# Altium footprint library SuperKnobLite.PcbLib: 29 footprints (part 2 of 2)
Each footprint in its own frame and in the unit in brackets; x right, y up, seen from the top. Pads: shape width x height; smd on the part's side, far side on the other; paste and mask are expansions set on the pad; w line width, h text height; cw(c..) or ccw(c..) is an arc to the next point about the centre after c.
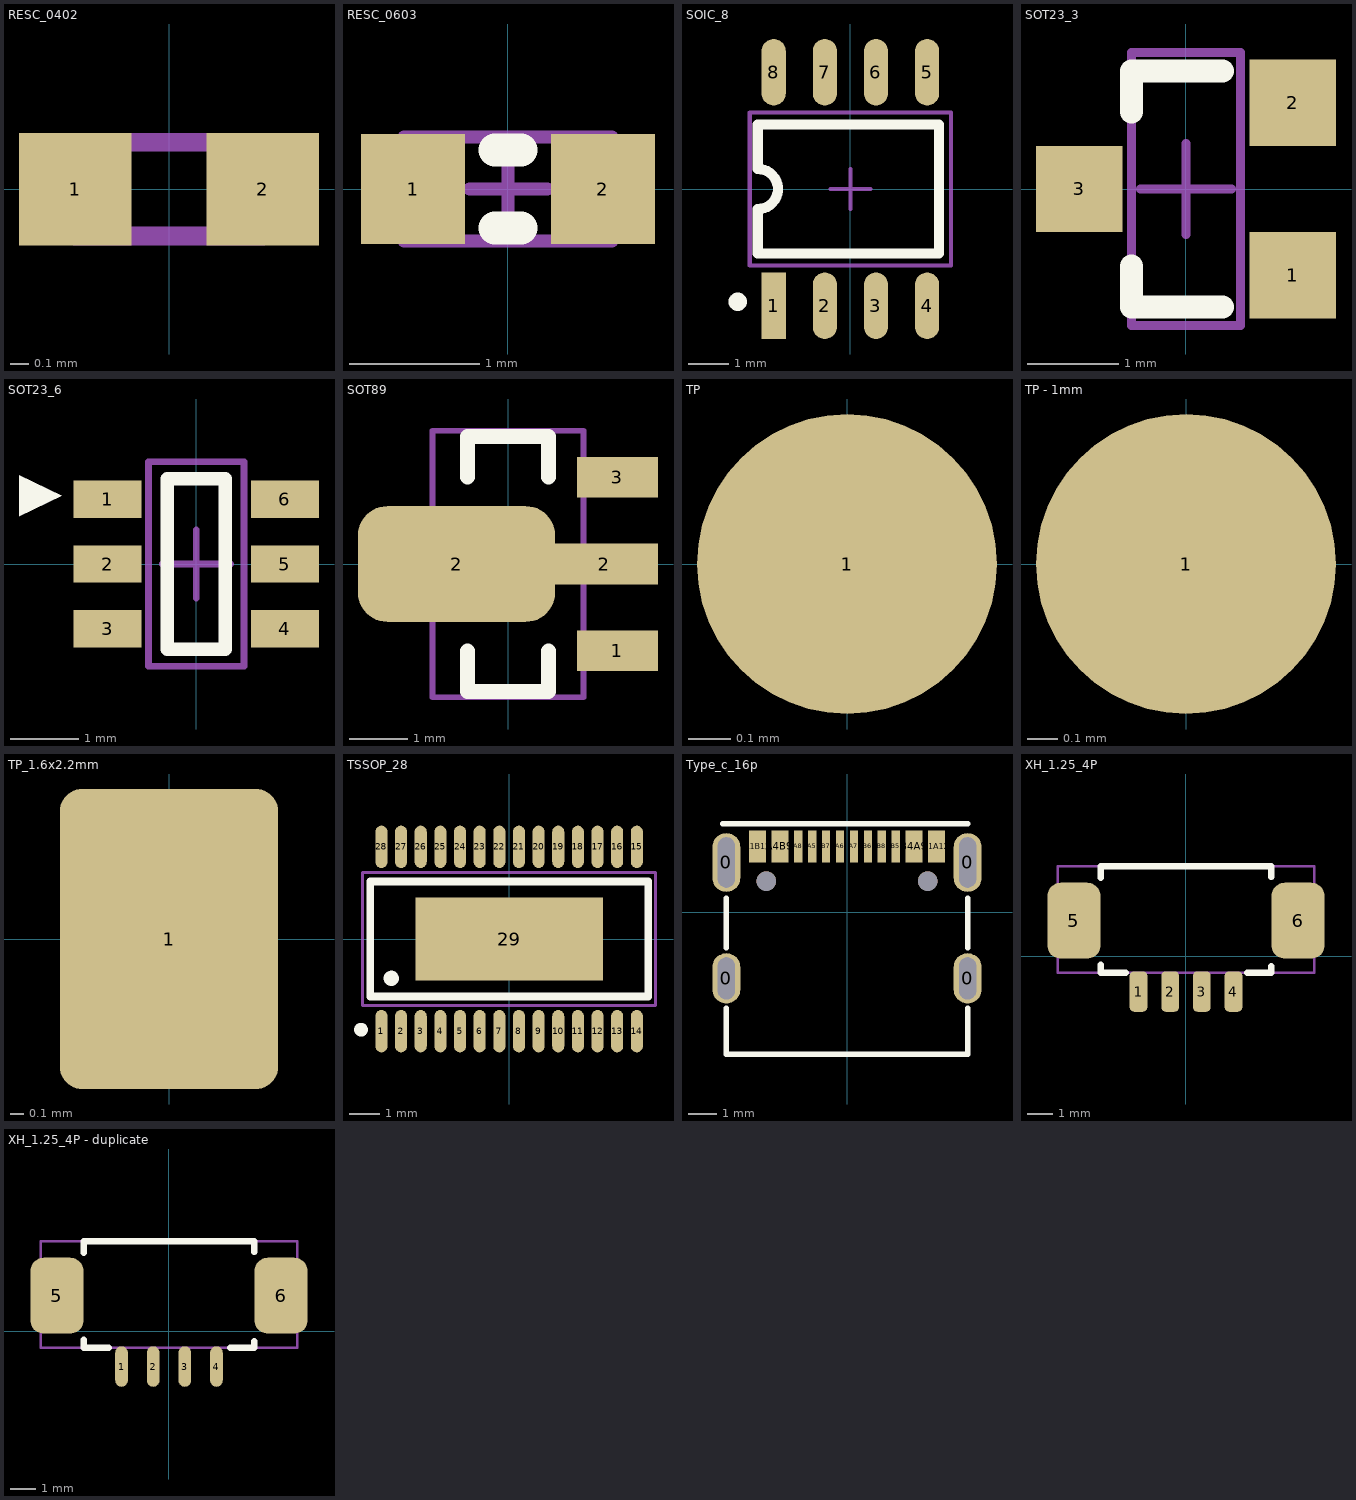
[diagram p1: the footprints below, top view; thin cyan lines are the x and y axes]

## RESC_0402 [mm]
pads (2):
  rect 0.6x0.6 smd: 1(-0.5,0) 2(0.5,0)
Mechanical 15:
  lines w0.1: -0.5,-0.25 -0.5,0.25 0.5,0.25 0.5,-0.25 -0.5,-0.25
3D body "RESC1005(0402).STEP": height 0.38, standoff 0, extent -0.5,-0.25 0.5,0.25

## RESC_0603 [mm]
pads (2):
  rect 0.8x0.85 smd: 1(-0.73,0) 2(0.73,0)
Top Overlay:
  lines w0.254: -0.1,-0.3 0.1,-0.3 ; -0.1,0.3 0.1,0.3
Mechanical 15:
  lines w0.1: -0.297,0 0.303,0 ; 0,-0.3 0,0.3 ; -0.8,-0.4 -0.8,0.4 0.8,0.4 0.8,-0.4 -0.8,-0.4
3D body "RESC1608(0603).STEP": height 0.38, standoff 0, extent -0.8,-0.4 0.8,0.4

## SOIC_8 [mm]
pads (8):
  rect 0.6x1.65 smd: 1(-1.905,-2.9)
  oval 0.6x1.65 smd: 2(-0.635,-2.9) 3(0.635,-2.9) 4(1.905,-2.9) 5(1.905,2.9) 6(0.635,2.9) 7(-0.635,2.9) 8(-1.905,2.9)
Top Overlay:
  circle w0.254: c-2.8,-2.8 r0.1
  lines w0.254: -2.3,-1.6 -2.3,-0.5 ccw(c-2.3,0) -2.3,0.5 -2.3,1.6 2.2,1.6 2.2,-1.6 -2.3,-1.6
Mechanical 15:
  lines w0.1: -0.5,0 0.5,0 ; 0,-0.5 0,0.5 ; -2.5,-1.9 -2.5,1.9 2.5,1.9 2.5,-1.9 -2.5,-1.9
3D body "SOIC8.STEP": height 1.75, standoff 0, extent -2.5,-3.006 2.5,3.006

## SOT23_3 [mm]
pads (3):
  rect 0.95x0.95 smd: 1(1.175,-0.95) 2(1.175,0.95) 3(-1.175,0)
Top Overlay:
  lines w0.254: -0.6,-0.85 -0.6,-1.3 0.4,-1.3 ; -0.6,0.85 -0.6,1.3 0.4,1.3
Mechanical 15:
  lines w0.1: -0.5,0 0.5,0 ; 0,-0.5 0,0.5 ; -0.6,-1.5 0.6,-1.5 0.6,1.5 -0.6,1.5 -0.6,-1.5
3D body "SOT23.STEP": height 1.08, standoff 0, extent -1.34,-1.5 1.3,1.5

## SOT23_6 [mm]
pads (6):
  rect 1x0.55 smd: 1(-1.3,0.95) 2(-1.3,0) 3(-1.3,-0.95) 4(1.3,-0.95) 5(1.3,0) 6(1.3,0.95)
Top Overlay:
  region: -1.975,1 -2.6,1.3 -2.6,0.7
  lines w0.2: -0.425,-1.25 0.425,-1.25 0.425,1.25 -0.425,1.25 -0.425,-1.25
Mechanical 15:
  lines w0.1: -0.5,0 0.5,0 ; 0,-0.5 0,0.5 ; -0.7,-1.5 0.7,-1.5 0.7,1.5 -0.7,1.5 -0.7,-1.5
3D body "SOT23-6.step": height 1.45, standoff 0, extent -1.4,-1.45 1.4,1.45

## SOT89 [mm]
pads (4):
  rect 1.4x0.7 smd: 1(1.887,-1.5) 3(1.887,1.5)
  rrect50% 3.4x2 smd: 2(-0.888,0)
  rect 1.85x0.7 smd: 2(1.662,0)
Top Overlay:
  lines w0.254: -0.7,-1.5 -0.7,-2.2 0.7,-2.2 0.7,-1.5 ; -0.7,1.5 -0.7,2.2 0.7,2.2 0.7,1.5
Mechanical 15:
  lines w0.1: -1.3,-2.3 -1.3,2.3 1.3,2.3 1.3,-2.3 -1.3,-2.3
3D body "SOT89.STEP": height 1.62, standoff 0.01, extent -2.077,-2.317 2.173,2.283

## TP [mm]
pads (1):
  round 0.7 smd: 1(0,0)

## TP - 1mm [mm]
pads (1):
  round 1 smd: 1(0,0)

## TP_1.6x2.2mm [mm]
pads (1):
  rrect20% 1.6x2.2 smd: 1(0,0)

## TSSOP_28 [mm] "0.65"
pads (29):
  oval 0.4x1.4 smd: 1(-4.225,-3.05) 2(-3.575,-3.05) 3(-2.925,-3.05) 4(-2.275,-3.05) 5(-1.625,-3.05) 6(-0.975,-3.05) 7(-0.325,-3.05) 8(0.325,-3.05) 9(0.975,-3.05) 10(1.625,-3.05) 11(2.275,-3.05) 12(2.925,-3.05) 13(3.575,-3.05) 14(4.225,-3.05) 15(4.225,3.05) 16(3.575,3.05) 17(2.925,3.05) 18(2.275,3.05) 19(1.625,3.05) 20(0.975,3.05) 21(0.325,3.05) 22(-0.325,3.05) 23(-0.975,3.05) 24(-1.625,3.05) 25(-2.275,3.05) 26(-2.925,3.05) 27(-3.575,3.05) 28(-4.225,3.05)
  rect 6.2x2.75 smd: 29(0,0)
Top Overlay:
  circle w0.254: c-4.9,-3 r0.1
  circle w0.3: c-3.9,-1.3 r0.1
  lines w0.254: -4.6,-1.9 -4.6,1.9 4.6,1.9 4.6,-1.9 -4.6,-1.9
Mechanical 15:
  lines w0.1: -0.5,0 0.5,0 ; 0,-0.5 0,0.5 ; -4.85,-2.2 -4.85,2.2 4.85,2.2 4.85,-2.2 -4.85,-2.2
3D body "TSSOP-28.STEP": height 1.2, standoff 0, extent -4.85,-3.2 4.85,3.2

## Type_c_16p [mm]
pads (18):
  oval 1x1.8 hole 0.61 slot 1.5 at 90 deg: 0(-4.32,-2.362) 0(4.32,-2.362)
  oval 1x2.1 hole 0.61 slot 1.8 at 90 deg: 0(-4.32,1.787) 0(4.32,1.787)
  rect 0.6x1.15 smd: A1B12(-3.2,2.363) A4B9(-2.4,2.363) B1A12(3.2,2.363) B4A9(2.4,2.363)
  rect 0.3x1.15 smd: A5(-1.25,2.363) A6(-0.25,2.363) A7(0.25,2.363) A8(-1.75,2.363) B5(1.75,2.363) B6(0.75,2.363) B7(-0.75,2.363) B8(1.25,2.363)
  round 0.7 hole 0.7 unplated: ""(-2.89,1.117) ""(2.89,1.117)
Top Overlay:
  lines w0.203: -4.445,3.175 4.318,3.175 ; -4.318,-3.429 -4.318,-5.08 4.318,-5.08 4.318,-3.429 ; -4.318,-1.27 -4.318,0.508 ; 4.318,-1.27 4.318,0.508
3D body "User Library-USB Type C Port (SMD Type).STEP": height 3.26, standoff -0.94, extent -4.452,-5.035 4.488,2.865

## XH_1.25_4P [mm]
pads (6):
  rrect50% 0.7x1.6 smd: 1(-1.875,-1.4) 2(-0.625,-1.4) 3(0.625,-1.4) 4(1.875,-1.4)
  rrect50% 2.1x3 smd: 5(-4.425,1.4) 6(4.425,1.4)
Top Overlay:
  lines w0.254: -3.375,-0.35 -3.375,-0.65 -2.375,-0.65 ; -3.375,3.1 -3.375,3.55 3.375,3.55 3.375,3.125 ; 2.425,-0.65 3.375,-0.65 3.375,-0.4
Mechanical 15:
  lines w0.1: -5.075,-0.65 -5.075,3.55 5.075,3.55 5.075,-0.65 -5.075,-0.65
3D body "XH1.25-4P-SMD.STEP": height 3.5, standoff 0, extent -5.075,-1.65 5.075,3.55

## XH_1.25_4P - duplicate [mm]
pads (6):
  oval 0.5x1.6 smd: 1(-1.875,-1.4) 2(-0.625,-1.4) 3(0.625,-1.4) 4(1.875,-1.4)
  rrect50% 2.1x3 smd: 5(-4.425,1.4) 6(4.425,1.4)
Top Overlay:
  lines w0.254: -3.375,-0.35 -3.375,-0.65 -2.375,-0.65 ; -3.375,3.1 -3.375,3.55 3.375,3.55 3.375,3.125 ; 2.425,-0.65 3.375,-0.65 3.375,-0.4
Mechanical 15:
  lines w0.1: -5.075,-0.65 5.075,-0.65 5.075,3.55 -5.075,3.55 -5.075,-0.65
3D body "XH1.25-4P-SMD.STEP": height 3.5, standoff 0, extent -5.075,-1.65 5.075,3.55